# Altium footprint library GBOX_V2.PcbLib: 28 footprints (part 1 of 2)
Each footprint in its own frame and in the unit in brackets; x right, y up, seen from the top. Pads: shape width x height; smd on the part's side, far side on the other; paste and mask are expansions set on the pad; w line width, h text height; cw(c..) or ccw(c..) is an arc to the next point about the centre after c.
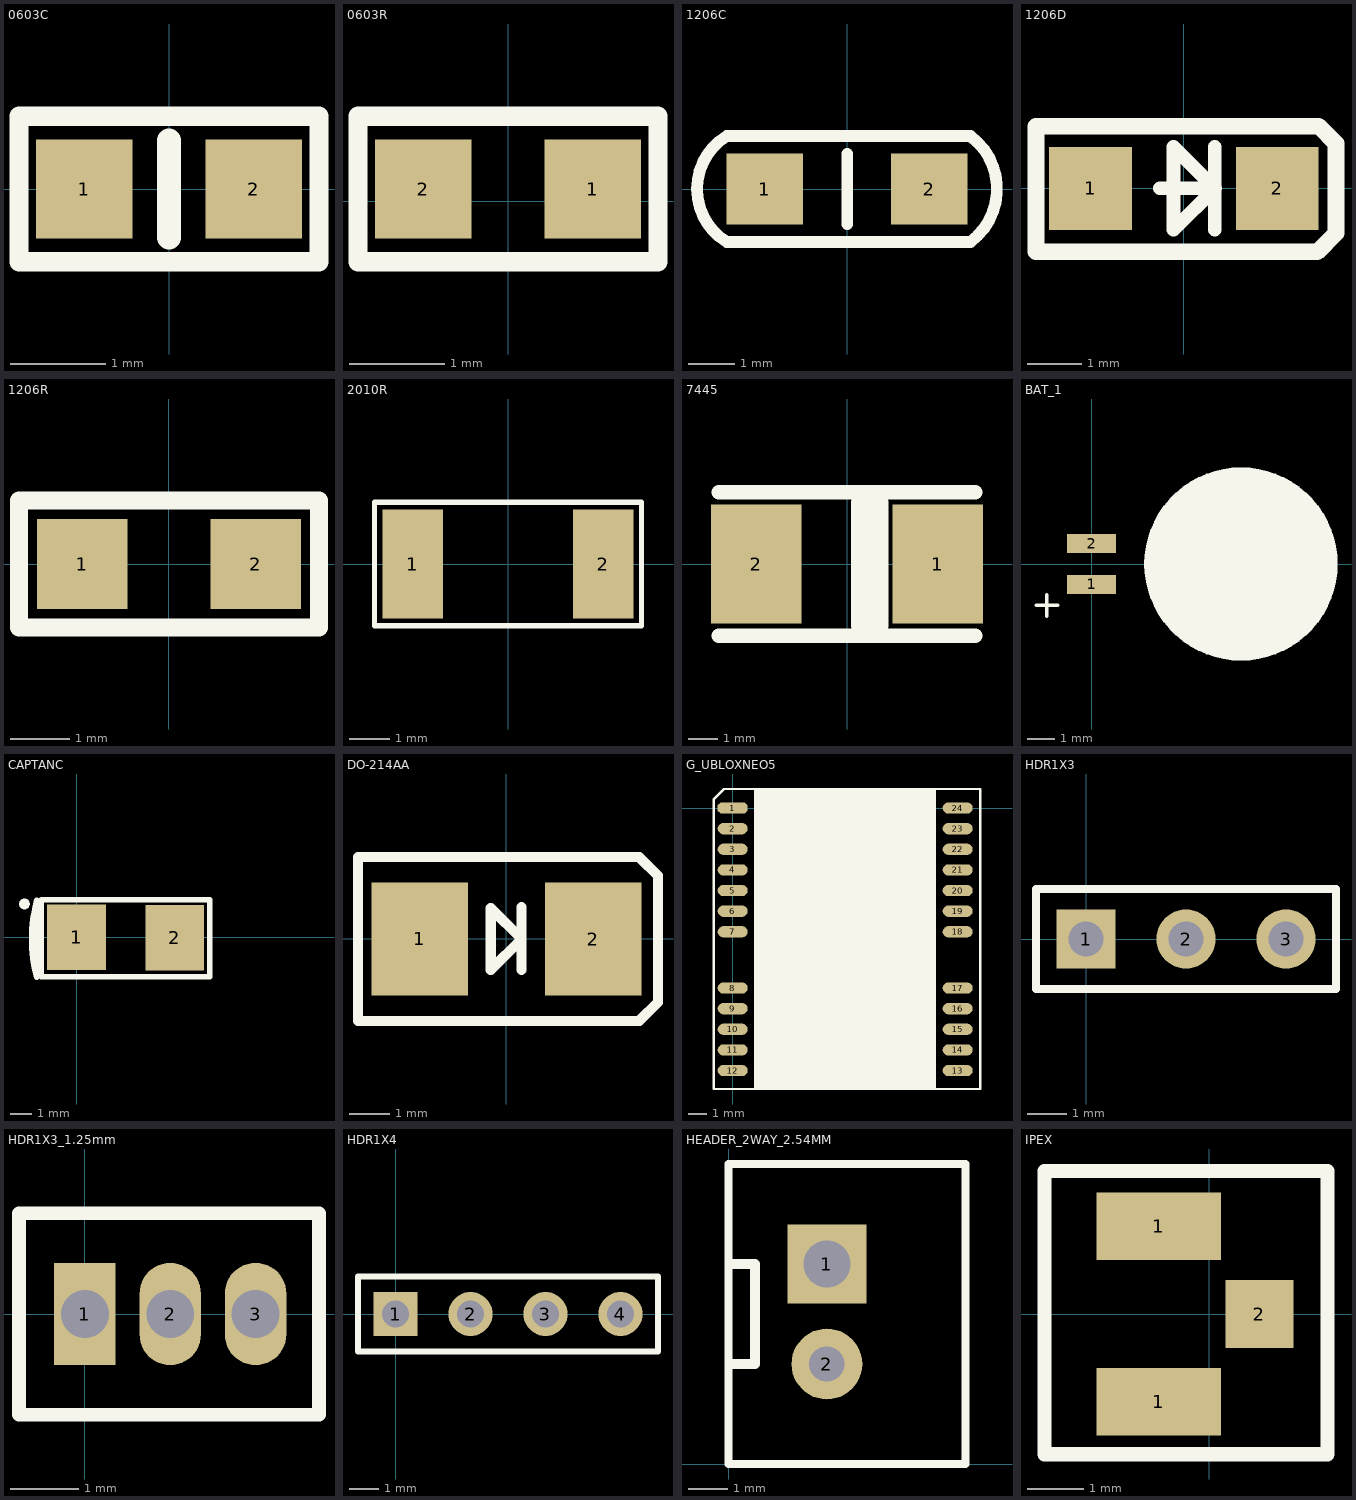
[diagram p0: the footprints below, top view; thin cyan lines are the x and y axes]

## 0603C [mil]
height 200
pads (2):
  rect 40x41 smd: 1(-35,0) 2(35,0)
Top Overlay:
  lines w8: -62,-30 -62,30 62,30 62,-30 -62,-30
  lines w10: 0,-20 0,20
3D body "User Library-cap_0603_lowprofile.STEP": height 23.62, standoff 0, extent -31.5,-15.75 31.5,15.75

## 0603R [mil]
height 200
pads (2):
  rect 40x41 smd: 1(35,5) 2(-35,5)
Top Overlay:
  lines w8: -62,-25 -62,35 62,35 62,-25 -62,-25
3D body "R0603.STEP": height 17.72, standoff 0, extent -31.5,-10.75 31.5,20.75

## 1206C [mil]
height 200
pads (2):
  rect 65x60 smd: 1(-70,0) 2(70,0)
Top Overlay:
  lines w10: -102.53,-45 105,-45 ; -102.49,-45.02 cw(c-75.12,0) -102.57,44.98 105,45 ; 0,-30 0,30 ; 104.96,45.03 cw(c71.27,0) 105.04,-44.97
3D body "1206c.step": height 39.45, standoff 0, extent -62.99,-31.49 62.99,31.5

## 1206D [mil] "1206-Diode"
pads (2):
  rect 60x60 smd: 1(-67.5,0) 2(67.5,0)
Top Overlay:
  lines w10: -17.5,0 22.5,0 ; 22.35,-30 22.35,30 ; 22.5,0 -7.5,30 -7.5,-30 22.5,0
  lines w12: -107,-46 96.5,-46 110,-32.5 110,32.5 97.5,45 -107,45 -107,-46
3D body "SOD123.STEP": height -45, standoff -95, extent -72.83,-31.49 72.84,31.5

## 1206R [mil]
pads (2):
  rect 60x60 smd: 1(-57.5,0) 2(57.5,0)
Top Overlay:
  lines w12: 99.5,-42 -99.5,-42 -99.5,42 99.5,42 99.5,-41
3D body "User Library-RES1206.STEP": height 21.69, standoff 0, extent -62.99,-31.49 63,31.5

## 2010R [mm]
height 5.08
pads (2):
  rect 1.5x2.7 smd: 1(-2.349,0) 2(2.349,0)
Top Overlay:
  lines w0.127: -3.289,-1.524 -3.289,1.524 3.289,1.524 3.289,-1.524 -3.289,-1.524
3D body "User Library-R_2010.STEP": height 0.6, standoff 0, extent -2.5,-1.25 2.5,1.25

## 7445 [mil] "D型钽电容"
pads (2):
  rect 120x157.48 smd: 1(120,0) 2(-120,0)
Top Overlay:
  lines w19.68: -170,-95 170,-95 ; -170,95 170,95
  lines w50: 30,-80 30,80
3D body "CaseD_7343-31.step": height 110.24, standoff 0, extent -143.71,-84.65 143.69,84.64

## BAT_1 [mm]
height 5.08
pads (2):
  rect 1.8x0.7 smd: 1(0,-0.75) 2(0,0.75)
Top Overlay:
  circle w0.127: c5.5,0 r3.5
  circle w1: c5.5,0 r3
  rectangle: 3.175,-2.667 7.747,2.54
  rectangle: 4.445,2.032 6.731,3.302
  rectangle: 2.54,-1.905 4.064,1.905
  rectangle: 7.493,-1.651 8.382,1.905
  rectangle: 4.191,-3.175 6.985,-2.413
  rectangle: 7.747,-2.159 8.255,-1.651
  rectangle: 8.382,-1.143 8.763,1.397
  rectangle: 8.255,-1.524 8.636,-0.889
  rectangle: 7.747,-1.905 8.382,-1.27
  rectangle: 7.366,-2.286 8.128,-1.778
  rectangle: 2.032,-0.762 3.302,0.762
  rectangle: 2.159,0.635 2.667,1.143
  rectangle: 2.794,1.651 3.302,2.286
  rectangle: 3.429,2.413 4.572,2.794
  rectangle: 3.683,2.794 4.572,2.921
  rectangle: 3.937,2.794 4.572,3.048
  rectangle: 4.191,2.921 4.572,3.175
  rectangle: 4.699,3.175 6.223,3.429
  rectangle: 6.604,3.048 6.985,3.175
  rectangle: 6.604,2.54 7.62,2.794
  rectangle: 6.604,2.667 7.239,3.048
  rectangle: 7.493,1.905 8.128,2.286
  rectangle: 2.286,-1.524 2.921,-0.635
  rectangle: 2.794,-2.286 3.429,-1.651
  rectangle: 3.429,-2.794 4.318,-2.286
  rectangle: 3.937,-3.175 4.191,-2.54
  rectangle: 4.445,-3.302 6.477,-3.048
  rectangle: 6.731,-2.921 7.366,-2.54
  rectangle: 7.366,-2.54 7.874,-2.286
  lines w0.127: -2.051,-1.524 -1.251,-1.524 ; -1.651,-1.924 -1.651,-1.124
3D body "ms621fe.step": height 2.58, standoff -0.12, extent -0.312,-3.4 8.988,3.4

## CAPTANC [mm]
height 5.08
pads (3):
  rect 2.7x3 smd: 1(0,0) 2(4.502,-0.025)
  round 0.5 on Top Overlay: ""(-2.388,1.524)
Top Overlay:
  lines w0.254: -1.854,-1.678 -1.854,1.422 ; -1.827,-1.833 cw(c4.525,-0.081) -1.817,1.706 ; -1.626,-1.805 6.096,-1.802 6.096,1.729 -1.599,1.729 -1.626,1.702 -1.626,-1.805
3D body "User Library-AVX_C_CASE.STEP": height 2.7, standoff 0, extent -0.84,-1.802 5.26,1.548

## DO-214AA [mm]
pads (2):
  rect 2.4x2.8 smd: 1(-2.153,0.001) 2(2.153,-0.001)
Top Overlay:
  lines w0.254: 0.375,-0.762 0.375,0.787 ; 0.965,-2.033 -3.683,-2.033 -3.683,2.031 3.099,2.031 ; 1.01,-2.033 3.296,-2.033 3.759,-1.57 3.759,1.567 3.296,2.031 1.01,2.031 ; -0.387,-0.763 0.375,-0.001 -0.387,0.761 -0.387,-0.763
3D body "User Library-DO-214AA_SMB.STEP": height 2.2, standoff -0.05, extent -2.65,-1.85 2.65,1.85

## G_UBLOXNEO5 [mm]
height 1.35
pads (24):
  oct 1.6x0.6 smd: 1(0,0)
  oval 1.6x0.6 smd: 2(0,-1.1) 3(0,-2.2) 4(0,-3.3) 5(0,-4.4) 6(0,-5.5) 7(0,-6.6) 8(0,-9.6) 9(0,-10.7) 10(0,-11.8) 11(0,-12.9) 12(0,-14) 13(12,-14) 14(12,-12.9) 15(12,-11.8) 16(12,-10.7) 17(12,-9.6) 18(12,-6.6) 19(12,-5.5) 20(12,-4.4) 21(12,-3.3) 22(12,-2.2) 23(12,-1.1) 24(12,0)
Top Overlay:
  rectangle: 1.144,-14.984 10.847,1.016
  lines w0.127: -1.016,-14.984 13.208,-14.984 13.208,1.016 -0.457,1.016 -1.016,0.457 -1.016,-14.984
3D body "User Library-UBLOX_GPS_NEO-6M.STEP": height 2.64, standoff 0, extent -0.18,-15.3 12.18,1.3

## HDR1X3 [mm]
pads (3):
  rect 1.5x1.5 hole 0.9: 1(0,0)
  round 1.5 hole 0.9: 2(2.54,0) 3(5.08,0)
Top Overlay:
  lines w0.2: -1.27,-1.27 6.35,-1.27 6.35,1.27 -1.27,1.27 -1.27,-1.27

## HDR1X3_1.25mm [mm]
pads (3):
  rect 0.9x1.5 hole 0.7: 1(0,0)
  oval 0.9x1.5 hole 0.7: 2(1.25,0) 3(2.5,0)
Top Overlay:
  lines w0.2: -0.965,-1.473 3.429,-1.473 3.429,1.473 -0.965,1.473 -0.965,-1.473

## HDR1X4 [mm] "Connector; Header; 4 Position"
height 5.08
pads (4):
  rect 1.5x1.5 hole 0.9: 1(0,0)
  round 1.5 hole 0.9: 2(2.54,0) 3(5.08,0) 4(7.62,0)
Top Overlay:
  lines w0.2: -1.27,-1.27 8.89,-1.27 8.89,1.27 -1.27,1.27 -1.27,-1.27

## HEADER_2WAY_2.54MM [mm]
height 2.65
pads (2):
  rect 2x2 hole 1.2: 1(2.5,5.08)
  round 1.8 hole 0.9: 2(2.5,2.54)
Top Overlay:
  lines w0.2: 0,0 6.02,0 6.02,7.62 0,7.62 0,0
  lines w0.254: 0.025,2.54 0.67,2.54 0.67,5.08 0.025,5.08
3D body "User Library-Header_2way_2_54mm.STEP": height 7, standoff -3.2, extent 0.042,0.06 5.842,7.56

## IPEX [mm]
height 2.65
pads (3):
  rect 2.2x1.2 smd: 1(-0.889,-1.55) 1(-0.889,1.55)
  rect 1.2x1.2 smd: 2(0.889,0)
Top Overlay:
  lines w0.254: -2.906,-2.475 2.094,-2.475 2.094,2.525 -2.906,2.525 -2.906,-2.475
3D body "User Library-20279-001.STEP": height 1.25, standoff -0.01, extent -2.388,-1.5 0.712,1.5